# EAGLE library part SI3019-F-FS (library SiLabs3050-18)
Silicon Labs Si3019
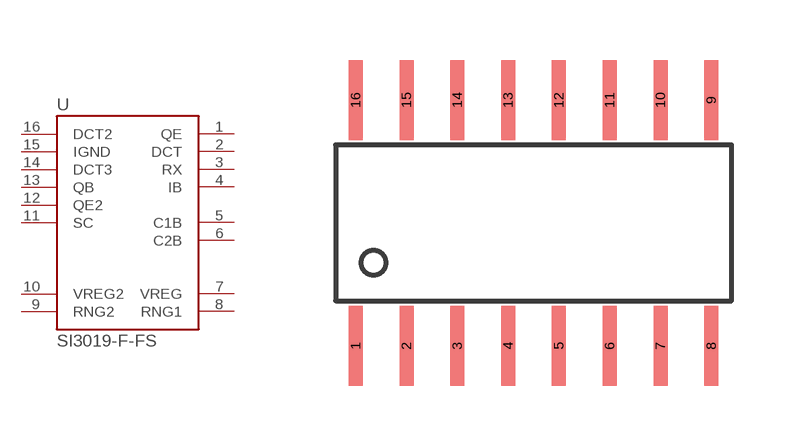
[diagram p1: symbol with the pads of SOIC-16; footprint SOIC-16]

Designator prefix -

## SI3019-F-FS  [SOIC-16]
1  QE
2  DCT
3  RX
4  IB
5  C1B
6  C2B
7  VREG
8  RNG1
9  RNG2
10  VREG2
11  SC
12  QE2
13  QB
14  DCT3
15  IGND
16  DCT2

## Footprint SOIC-16 (pad centres in mm)
ESOIC-16 with thermal pad 16-pin Enhanced Small-Outline IC with thermal pad
smd 0.35 x 2: 1 -4.445,-3.075; 2 -3.175,-3.075; 3 -1.905,-3.075; 4 -0.635,-3.075; 5 0.635,-3.075; 6 1.905,-3.075; 7 3.175,-3.075; 8 4.445,-3.075; 9 4.445,3.075; 10 3.175,3.075; 11 1.905,3.075; 12 0.635,3.075; 13 -0.635,3.075; 14 -1.905,3.075; 15 -3.175,3.075; 16 -4.445,3.075